# Altium schematic symbol library Power.SchLib: 11 symbols
Pins are listed as number, name and electrical type; pins without a type are passive.

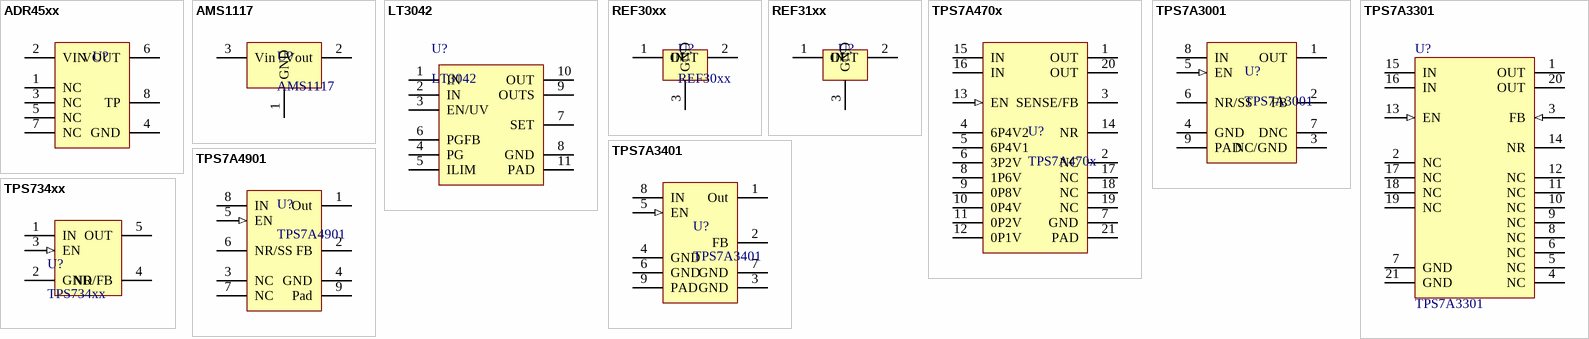
[diagram p0: symbols ADR45xx to TPS734xx]

## ADR45xx
designator U?  (value not drawn)
超低噪声、高精度  基准电压源
footprint SOIC8_L (SOIC, 8-Leads, Body 4.9x3.9mm, Pitch 1.27mm, IPC High Density)
footprint SOIC8_M (SOIC, 8-Leads, Body 4.9x3.9mm, Pitch 1.27mm, IPC Low Density)
footprint SOIC8_N (SOIC, 8-Leads, Body 4.9x3.9mm, Pitch 1.27mm, IPC Medium Density)
pins: 1 NC, 2 VIN (power), 3 NC, 4 GND (power), 5 NC, 6 VOUT (power), 7 NC, 8 TP

## AMS1117
designator U?
footprint SOT223_L (SOT223, 4-Leads, Body 6.5x3.5mm, Pitch 2.3mm, Lead Span 7mm, IPC High Density)
footprint SOT223_M (SOT223, 4-Leads, Body 6.5x3.5mm, Pitch 2.3mm, Lead Span 7mm, IPC Low Density)
footprint SOT223_N (SOT223, 4-Leads, Body 6.5x3.5mm, Pitch 2.3mm, Lead Span 7mm, IPC Medium Density)
pins: 1 GND (power), 2 Vout (power), 3 Vin (power)

## LT3042
designator U?
20V、200mA、超低噪声、超高 PSRR RF 线性稳压器
footprint MSOP10-PAD_N (MSOP, 10-Leads, Body 3.00x3.00mm, Pitch 0.50mm, Thermal Pad 1.99x1.79mm, IPC Medium Density)
footprint MSOP10-PAD_L (MSOP, 10-Leads, Body 3.00x3.00mm, Pitch 0.50mm, Thermal Pad 1.99x1.79mm, IPC High Density)
footprint MSOP10-PAD_M (MSOP, 10-Leads, Body 3.00x3.00mm, Pitch 0.50mm, Thermal Pad 1.99x1.79mm, IPC Low Density)
pins: 1 IN, 2 IN, 3 EN/UV, 4 PG, 5 ILIM, 6 PGFB, 7 SET, 8 GND, 9 OUTS, 10 OUT, 11 PAD

## REF30xx
designator U?
采用 SOT23-3 封装的 2.5V 输出 50ppm/℃ 漂移 50uA 静态电流的（带隙）电压参考
footprint SOT23-3_L (SOT23, 3-Leads, Body 2.9x1.3mm, Pitch 0.95mm, Lead Span 2.3mm - Reverse Pinning, IPC High Density)
footprint SOT23-3_M (SOT23, 3-Leads, Body 2.9x1.3mm, Pitch 0.95mm, Lead Span 2.3mm - Reverse Pinning, IPC Low Density)
footprint SOT23-3_N (SOT23, 3-Leads, Body 2.9x1.3mm, Pitch 0.95mm, Lead Span 2.3mm - Reverse Pinning, IPC Medium Density)
pins: 1 IN, 2 OUT, 3 GND

## REF31xx
designator U?  (value not drawn)
采用 SOT23-3 封装的 2.5V 输出 50ppm/℃ 漂移 50uA 静态电流的（带隙）电压参考
footprint SOT23-3_L (SOT23, 3-Leads, Body 2.9x1.3mm, Pitch 0.95mm, Lead Span 2.3mm - Reverse Pinning, IPC High Density)
footprint SOT23-3_M (SOT23, 3-Leads, Body 2.9x1.3mm, Pitch 0.95mm, Lead Span 2.3mm - Reverse Pinning, IPC Low Density)
footprint SOT23-3_N (SOT23, 3-Leads, Body 2.9x1.3mm, Pitch 0.95mm, Lead Span 2.3mm - Reverse Pinning, IPC Medium Density)
pins: 1 IN, 2 OUT, 3 GND

## TPS7A470x
designator U?
36V，1A，4µVRMS，射频 (RF) 低压降 (LDO) 电压稳压器
footprint VQFN20 (QFN, 20-Leads, Body 5x5mm, Pitch 0.65mm, Thermal Pad 3.15x3.15mm)
pins: 1 OUT (power), 2 NC, 3 SENSE/FB, 4 6P4V2, 5 6P4V1, 6 3P2V, 7 GND (power), 8 1P6V, 9 0P8V, 10 0P4V, 11 0P2V, 12 0P1V, 13 EN (in), 14 NR, 15 IN (power), 16 IN (power), 17 NC, 18 NC, 19 NC, 20 OUT (power), 21 PAD (power)

## TPS7A3001
designator U?
–35V, –200mA, Ultralow-Noise, Negative Linear Regulator
footprint MSOP8-PAD_N (MSOP, 8-Leads, Body 3.00x3.00mm, Pitch 0.65mm, Thermal Pad 1.89x1.57mm, IPC Medium Density)
footprint MSOP8-PAD_L (MSOP, 8-Leads, Body 3.00x3.00mm, Pitch 0.65mm, Thermal Pad 1.89x1.57mm, IPC High Density)
footprint MSOP8-PAD_M (MSOP, 8-Leads, Body 3.00x3.00mm, Pitch 0.65mm, Thermal Pad 1.89x1.57mm, IPC Low Density)
pins: 1 OUT (power), 2 FB, 3 NC/GND (power) "Not internally connected. This pin must either be left open or tied to GND.", 4 GND (power), 5 EN (in), 6 NR/SS, 7 DNC "Do not connect. Do not route this pin to any electrical net, not even GND or IN.", 8 IN (power), 9 PAD (power)

## TPS7A3301
designator U?
-36V, -1A, Ultralow-Noise Negative Voltage Regulator
footprint VQFN20 (QFN, 20-Leads, Body 5x5mm, Pitch 0.65mm, Thermal Pad 3.15x3.15mm)
pins: 1 OUT (power), 2 NC, 3 FB (in), 4 NC, 5 NC, 6 NC, 7 GND (power), 8 NC, 9 NC, 10 NC, 11 NC, 12 NC, 13 EN (in), 14 NR, 15 IN (power), 16 IN (power), 17 NC, 18 NC, 19 NC, 20 OUT (power), 21 GND (power)

## TPS7A3401
designator U?
–20V, –200mA, Low-Noise Negative Voltage Regulator
footprint MSOP8-PAD_N (MSOP, 8-Leads, Body 3.00x3.00mm, Pitch 0.65mm, Thermal Pad 1.89x1.57mm, IPC Medium Density)
footprint MSOP8-PAD_L (MSOP, 8-Leads, Body 3.00x3.00mm, Pitch 0.65mm, Thermal Pad 1.89x1.57mm, IPC High Density)
footprint MSOP8-PAD_M (MSOP, 8-Leads, Body 3.00x3.00mm, Pitch 0.65mm, Thermal Pad 1.89x1.57mm, IPC Low Density)
pins: 1 Out (power), 2 FB, 3 GND (power), 4 GND (power), 5 EN (in), 6 GND (power), 7 GND (power), 8 IN (power), 9 PAD (power)

## TPS7A4901
designator U?
36V, 150mA, Ultralow-Noise, Positive Linear Regulator
footprint MSOP8-PAD_N (MSOP, 8-Leads, Body 3.00x3.00mm, Pitch 0.65mm, Thermal Pad 1.89x1.57mm, IPC Medium Density)
footprint MSOP8-PAD_L (MSOP, 8-Leads, Body 3.00x3.00mm, Pitch 0.65mm, Thermal Pad 1.89x1.57mm, IPC High Density)
footprint MSOP8-PAD_M (MSOP, 8-Leads, Body 3.00x3.00mm, Pitch 0.65mm, Thermal Pad 1.89x1.57mm, IPC Low Density)
pins: 1 Out (power), 2 FB, 3 NC, 4 GND (power), 5 EN (in), 6 NR/SS, 7 NC, 8 IN (power), 9 Pad (power)

## TPS734xx
designator U?
250mA,LowQuiescentCurrent,Ultra-LowNoise,HighPSRRLow-DropoutLinearRegulator
footprint SOT23-5_L (SOT-23, 5-Leads, Body 2.9x1.6mm, Pitch 0.95mm, IPC High Density)
footprint SOT23-5_M (SOT-23, 5-Leads, Body 2.9x1.6mm, Pitch 0.95mm, IPC Low Density)
footprint SOT23-5_N (SOT-23, 5-Leads, Body 2.9x1.6mm, Pitch 0.95mm, IPC Medium Density)
pins: 1 IN (power), 2 GND (power), 3 EN (in), 4 NR/FB, 5 OUT (power)